# Altium footprint library UCC27524DSDR.PcbLib: 3 footprints
Each footprint in its own frame and in the unit in brackets; x right, y up, seen from the top. Pads: shape width x height; smd on the part's side, far side on the other; paste and mask are expansions set on the pad; w line width, h text height; cw(c..) or ccw(c..) is an arc to the next point about the centre after c.
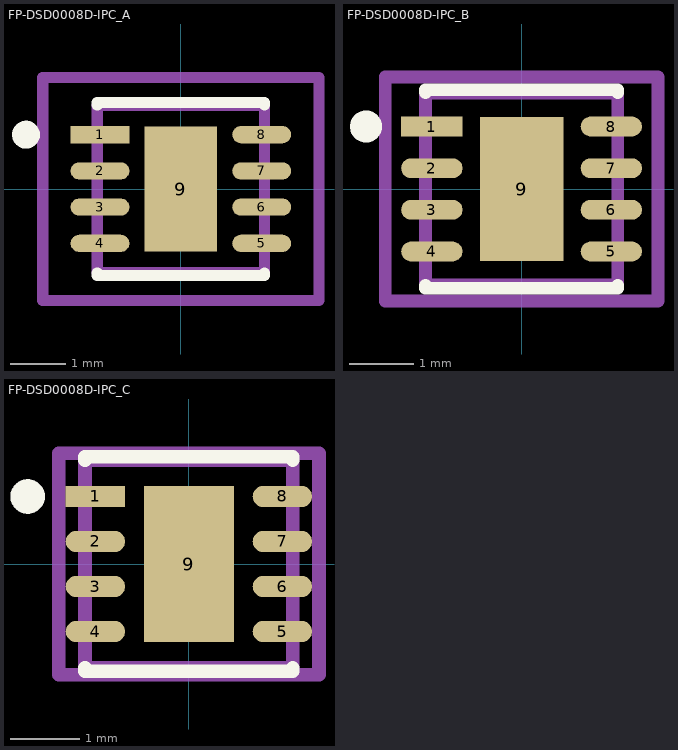
[diagram p0: the footprints below, top view; thin cyan lines are the x and y axes]

## FP-DSD0008D-IPC_A [mm]
pads (9):
  rect 1.057x0.309 smd paste+0 mask+0: 1(-1.451,0.975)
  rrect100% 1.057x0.309 smd paste+0 mask+0: 2(-1.451,0.325) 3(-1.451,-0.325) 4(-1.451,-0.975) 5(1.451,-0.975) 6(1.451,-0.325) 7(1.451,0.325) 8(1.451,0.975)
  rect 1.3x2.25 smd paste-1000 mask+0: 9(0,0)
Top Overlay:
  circle w0.25: c-2.779,0.975 r0.125
  lines w0.2: -1.5,-1.505 -1.5,-1.55 1.5,-1.55 1.5,-1.505 ; -1.5,1.505 -1.5,1.55 1.5,1.55 1.5,1.505
Top Paste:
  rectangle: -0.353,-0.828 0.353,0.828
Top Assembly:
  lines w0.2: -2.479,-2 2.479,-2 2.479,2 -2.479,2 -2.479,-2
  text ".Designator" at 0,-0.001 h1
Top 3D Body:
  lines w0.2: -1.5,-1.5 1.5,-1.5 1.5,1.5 -1.5,1.5 -1.5,-1.5
Top Courtyard:
  lines w0.2: -2.479,-2 2.479,-2 2.479,2 -2.479,2 -2.479,-2
Top Component Center:
  lines w0.1: -0.5,0 0.5,0 ; 0,-0.5 0,0.5
3D body "IC_Texas_Instruments_UCC27523DSDR_eec.STEP": height 0.25, standoff 0, extent -2.479,-2 2.479,2

## FP-DSD0008D-IPC_B [mm]
pads (9):
  rect 0.957x0.309 smd paste+0 mask+0: 1(-1.401,0.975)
  rrect100% 0.957x0.309 smd paste+0 mask+0: 2(-1.401,0.325) 3(-1.401,-0.325) 4(-1.401,-0.975) 5(1.401,-0.975) 6(1.401,-0.325) 7(1.401,0.325) 8(1.401,0.975)
  rect 1.3x2.25 smd paste-1000 mask+0: 9(0,0)
Top Overlay:
  circle w0.25: c-2.429,0.975 r0.125
  lines w0.2: -1.5,-1.505 -1.5,-1.55 1.5,-1.55 1.5,-1.505 ; -1.5,1.505 -1.5,1.55 1.5,1.55 1.5,1.505
Top Paste:
  rectangle: -0.353,-0.828 0.353,0.828
Top Assembly:
  lines w0.2: -2.129,-1.75 2.129,-1.75 2.129,1.75 -2.129,1.75 -2.129,-1.75
  text ".Designator" at 0,-0.001 h1
Top 3D Body:
  lines w0.2: -1.5,-1.5 1.5,-1.5 1.5,1.5 -1.5,1.5 -1.5,-1.5
Top Courtyard:
  lines w0.2: -2.129,-1.75 2.129,-1.75 2.129,1.75 -2.129,1.75 -2.129,-1.75
Top Component Center:
  lines w0.1: -0.5,0 0.5,0 ; 0,-0.5 0,0.5
3D body "IC_Texas_Instruments_UCC27523DSDR_eec.STEP": height 0.25, standoff 0, extent -2.129,-1.75 2.129,1.75

## FP-DSD0008D-IPC_C [mm]
pads (9):
  rect 0.857x0.309 smd paste+0 mask+0: 1(-1.351,0.975)
  rrect100% 0.857x0.309 smd paste+0 mask+0: 2(-1.351,0.325) 3(-1.351,-0.325) 4(-1.351,-0.975) 5(1.351,-0.975) 6(1.351,-0.325) 7(1.351,0.325) 8(1.351,0.975)
  rect 1.3x2.25 smd paste-1000 mask+0: 9(0,0)
Top Overlay:
  circle w0.25: c-2.329,0.975 r0.125
  lines w0.2: -1.5,-1.505 -1.5,-1.55 1.5,-1.55 1.5,-1.505 ; -1.5,1.505 -1.5,1.55 1.5,1.55 1.5,1.505
Top Paste:
  rectangle: -0.353,-0.828 0.353,0.828
Top Assembly:
  lines w0.2: -1.879,-1.6 1.879,-1.6 1.879,1.6 -1.879,1.6 -1.879,-1.6
  text ".Designator" at 0,-0.001 h1
Top 3D Body:
  lines w0.2: -1.5,-1.5 1.5,-1.5 1.5,1.5 -1.5,1.5 -1.5,-1.5
Top Courtyard:
  lines w0.2: -1.879,-1.6 1.879,-1.6 1.879,1.6 -1.879,1.6 -1.879,-1.6
Top Component Center:
  lines w0.1: -0.5,0 0.5,0 ; 0,-0.5 0,0.5
3D body "IC_Texas_Instruments_UCC27523DSDR_eec.STEP": height 0.25, standoff 0, extent -1.879,-1.6 1.879,1.6